# Altium schematic symbol library 1N4148-SOD-123-2.SchLib: 1 symbol
Pins are listed as number, name and electrical type; pins without a type are passive.

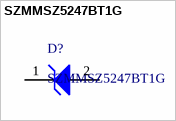
[diagram p0: symbol SZMMSZ5247BT1G]

## SZMMSZ5247BT1G
designator D?
Zener Voltage Regulator, 500 mW, 2-Pin SOD-123, Pb-Free, Tape and Reel; Manufacturer: On Semiconductor; P Max (W): 0.5; VZ Typ (V): 17; ComponentLink1Description: Manufacturer URL; ComponentLink2Description: Datasheet; PartNumber: SZMMSZ5247BT1G; ComponentLink3Description: Package Specification; PackageReference: SOD-123-2-425-04; ComponentLink3URL: http://www.onsemi.com/pub_link/Collateral/425-04.PDF; DatasheetVersion: Rev. 12; ComponentLink1URL: http://www.onsemi.com/; Packing: Tape and Reel; PackageVersion: Rev. G, 10/2009; Mounting Technology: Surface Mount; PackageDescription: 2-Pin SOD, Body 1.6 x 2.69 mm; ComponentLink2URL: http://www.onsemi.cn/pub_link/Collateral/MMSZ5221BT1-D.PDF; RoHS: Pb-Free
footprint ONSC-SOD-123-2-425-04_V
pins: 1 K, 2 A